# Altium footprint library to-case.PcbLib: 113 footprints (part 3 of 8)
Each footprint in its own frame and in the unit in brackets; x right, y up, seen from the top. Pads: shape width x height; smd on the part's side, far side on the other; paste and mask are expansions set on the pad; w line width, h text height; cw(c..) or ccw(c..) is an arc to the next point about the centre after c.
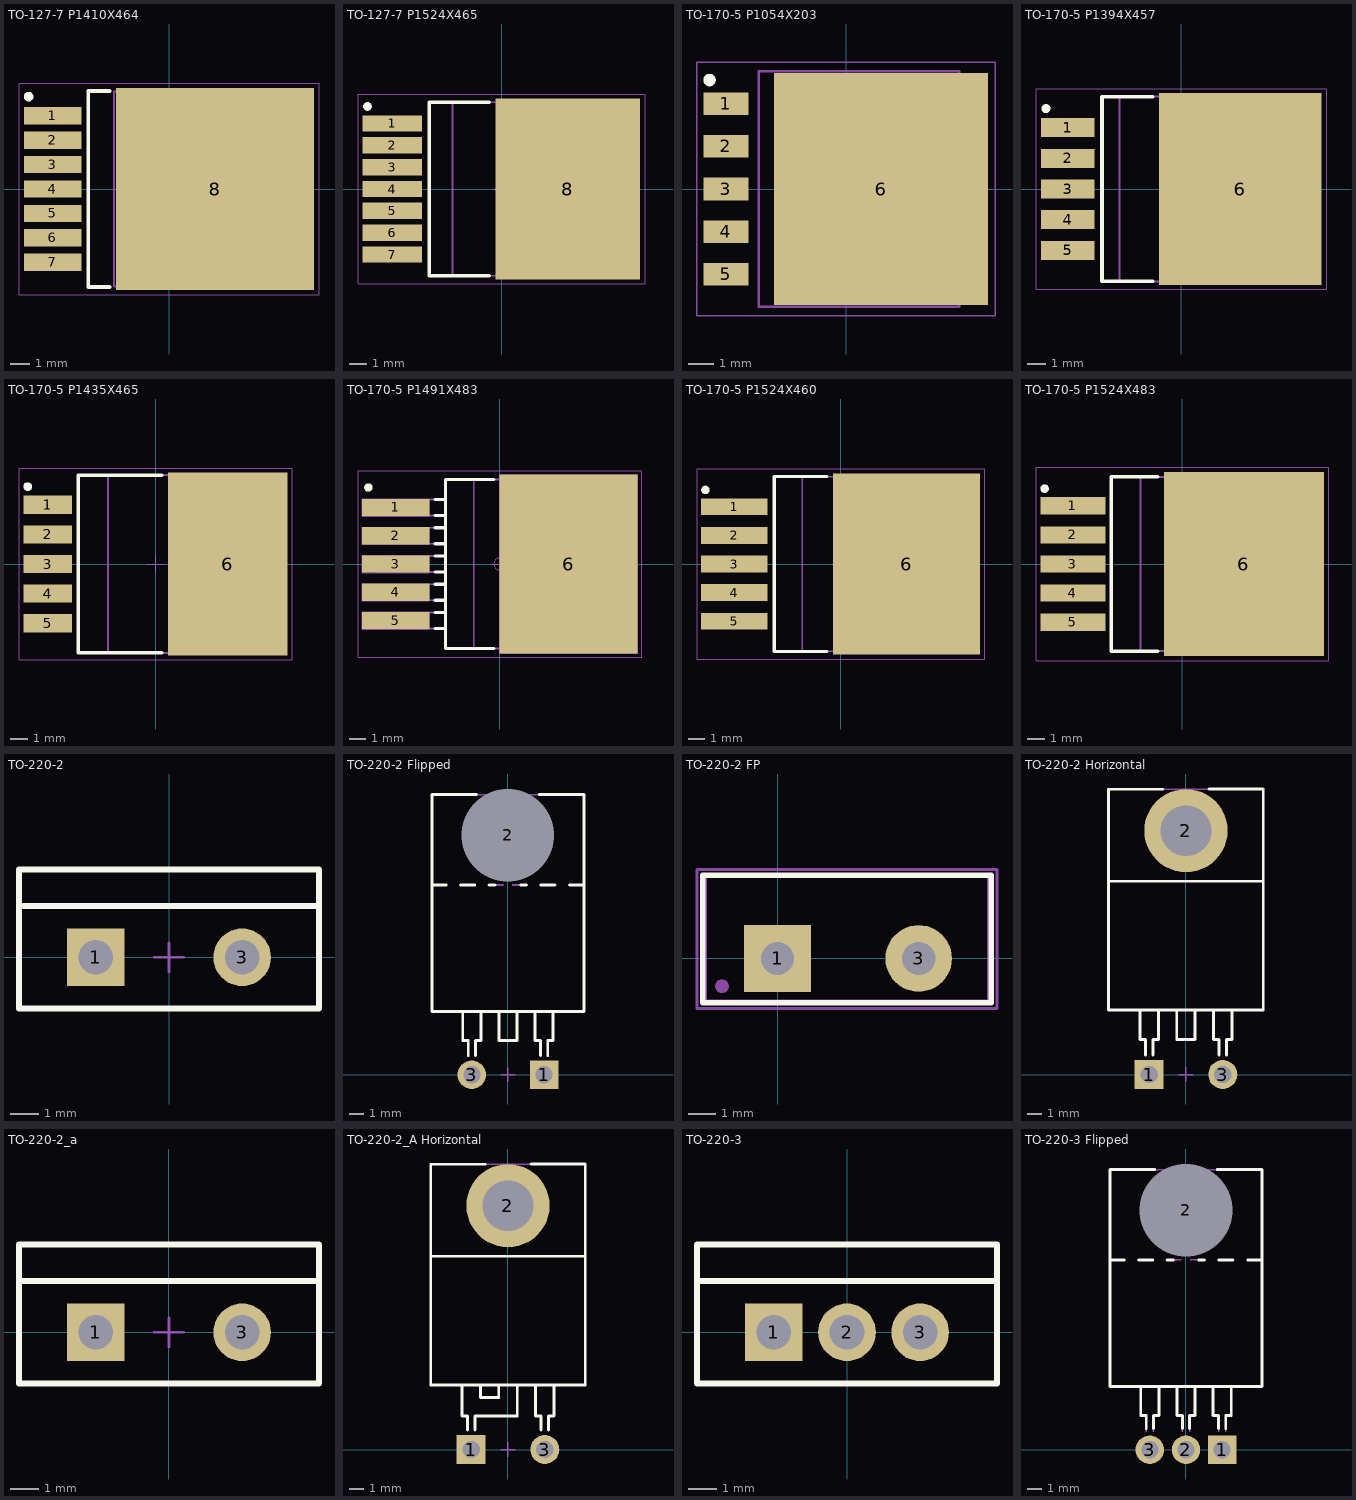
[diagram p2: the footprints below, top view; thin cyan lines are the x and y axes]

## TO-127-7 P1410X464 [mm] "TO-263, TO,1.27mm pitch;7 pin,14.10mm L X 8.64mm W X 4.64mm H body, IPC Medium Density"
height 4.64
pads (8):
  rect 3x0.9 smd: 1(-6.05,3.81) 2(-6.05,2.54) 3(-6.05,1.27) 4(-6.05,0) 5(-6.05,-1.27) 6(-6.05,-2.54) 7(-6.05,-3.81)
  rect 10.3x10.5 smd: 8(2.4,0)
Top Overlay:
  circle w0.25: c-7.3,4.8 r0.125
  lines w0.2: -3.1,-5.1 -4.2,-5.1 -4.2,5.1 -3.1,5.1
Top Paste:
  region: -1.98,-4.63 -0.36,-4.63 -0.36,-3.29 -1.98,-3.29
  region: 0.4,-4.63 2.02,-4.63 2.02,-3.29 0.4,-3.29
  region: 2.78,-4.63 4.4,-4.63 4.4,-3.29 2.78,-3.29
  region: 5.16,-4.63 6.78,-4.63 6.78,-3.29 5.16,-3.29
  region: -1.98,-2.65 -0.36,-2.65 -0.36,-1.31 -1.98,-1.31
  region: 0.4,-2.65 2.02,-2.65 2.02,-1.31 0.4,-1.31
  region: 2.78,-2.65 4.4,-2.65 4.4,-1.31 2.78,-1.31
  region: 5.16,-2.65 6.78,-2.65 6.78,-1.31 5.16,-1.31
  region: -1.98,-0.67 -0.36,-0.67 -0.36,0.67 -1.98,0.67
  region: 0.4,-0.67 2.02,-0.67 2.02,0.67 0.4,0.67
  region: 2.78,-0.67 4.4,-0.67 4.4,0.67 2.78,0.67
  region: 5.16,-0.67 6.78,-0.67 6.78,0.67 5.16,0.67
  region: -1.98,1.31 -0.36,1.31 -0.36,2.65 -1.98,2.65
  region: 0.4,1.31 2.02,1.31 2.02,2.65 0.4,2.65
  region: 2.78,1.31 4.4,1.31 4.4,2.65 2.78,2.65
  region: 5.16,1.31 6.78,1.31 6.78,2.65 5.16,2.65
  region: -1.98,3.29 -0.36,3.29 -0.36,4.63 -1.98,4.63
  region: 0.4,3.29 2.02,3.29 2.02,4.63 0.4,4.63
  region: 2.78,3.29 4.4,3.29 4.4,4.63 2.78,4.63
  region: 5.16,3.29 6.78,3.29 6.78,4.63 5.16,4.63
Mechanical 1:
  lines w0.1: 5.78,-5.112 6.199,-5.112 7.05,-4.17 7.05,4.17 6.199,5.112 5.78,5.112 ; -2.86,-5.08 5.78,-5.08 5.78,5.08 -2.86,5.08 -2.86,-5.08
Mechanical 15:
  circle w0.05: c0,0 r0.35
  lines w0.05: -0.5,0 0.5,0 ; 0,-0.5 0,0.5 ; -7.8,-5.5 7.8,-5.5 7.8,5.5 -7.8,5.5 -7.8,-5.5
3D body "TO127P1410X464-8N-1030X1050.stp": height 4.57, standoff 0, extent -7.124,-5.08 7.232,5.08

## TO-127-7 P1524X465 [mm] "TO, 1.27mm Pitch; 7 Pin, 15.24mm L X 8.89mm W X 4.65mm H Body, IPC Medium Density"
height 4.65
pads (8):
  rect 3.45x0.95 smd: 1(-6.35,3.81) 2(-6.35,2.54) 3(-6.35,1.27) 4(-6.35,0) 5(-6.35,-1.27) 6(-6.35,-2.54) 7(-6.35,-3.81)
  rect 8.4x10.5 smd: 8(3.85,0)
Top Overlay:
  circle w0.25: c-7.8,4.8 r0.125
  lines w0.2: -0.7,-5.05 -4.2,-5.05 -4.2,5.05 -0.7,5.05
Top Paste:
  region: 0.5,-4.67 2.16,-4.67 2.16,-3.25 0.5,-3.25
  region: 3.02,-4.67 4.68,-4.67 4.68,-3.25 3.02,-3.25
  region: 5.54,-4.67 7.2,-4.67 7.2,-3.25 5.54,-3.25
  region: 0.5,-2.69 2.16,-2.69 2.16,-1.27 0.5,-1.27
  region: 3.02,-2.69 4.68,-2.69 4.68,-1.27 3.02,-1.27
  region: 5.54,-2.69 7.2,-2.69 7.2,-1.27 5.54,-1.27
  region: 0.5,-0.71 2.16,-0.71 2.16,0.71 0.5,0.71
  region: 3.02,-0.71 4.68,-0.71 4.68,0.71 3.02,0.71
  region: 5.54,-0.71 7.2,-0.71 7.2,0.71 5.54,0.71
  region: 0.5,1.27 2.16,1.27 2.16,2.69 0.5,2.69
  region: 3.02,1.27 4.68,1.27 4.68,2.69 3.02,2.69
  region: 5.54,1.27 7.2,1.27 7.2,2.69 5.54,2.69
  region: 0.5,3.25 2.16,3.25 2.16,4.67 0.5,4.67
  region: 3.02,3.25 4.68,3.25 4.68,4.67 3.02,4.67
  region: 5.54,3.25 7.2,3.25 7.2,4.67 5.54,4.67
Mechanical 1:
  lines w0.1: 6.04,5.047 6.561,5.047 7.62,3.874 7.62,-3.875 6.561,-5.048 6.04,-5.048 ; 6.04,-5.048 -2.85,-5.048 -2.85,5.048 6.04,5.048 6.04,-5.048
Mechanical 15:
  circle w0.05: c0,0 r0.35
  lines w0.05: -0.5,0 0.5,0 ; 0,-0.5 0,0.5 ; -8.35,-5.5 8.35,-5.5 8.35,5.5 -8.35,5.5 -8.35,-5.5
3D body "TO127P1524X465-8N-R840X1050.stp": height 4.65, standoff 0, extent -7.685,-5.205 7.685,5.205

## TO-170-5 P1054X203 [mm] "TO, 1.70mm Pitch; 5 Pin,10.54mm L X 8.00mm W X 2.03mm H body, IPC Medium Density"
height 2.03
pads (6):
  rect 1.8x0.9 smd: 1(-4.8,3.4) 2(-4.8,1.7) 3(-4.8,0) 4(-4.8,-1.7) 5(-4.8,-3.4)
  rect 8.55x9.25 smd: 6(1.4,0)
Top Overlay:
  circle w0.25: c-5.45,4.35 r0.125
Top Paste:
  region: 3.71,2.49 5.03,2.49 5.03,3.99 3.71,3.99
  region: 1.73,2.49 3.05,2.49 3.05,3.99 1.73,3.99
  region: -0.25,2.49 1.07,2.49 1.07,3.99 -0.25,3.99
  region: -2.23,2.49 -0.91,2.49 -0.91,3.99 -2.23,3.99
  region: 3.71,0.33 5.03,0.33 5.03,1.83 3.71,1.83
  region: 1.73,0.33 3.05,0.33 3.05,1.83 1.73,1.83
  region: -0.25,0.33 1.07,0.33 1.07,1.83 -0.25,1.83
  region: -2.23,0.33 -0.91,0.33 -0.91,1.83 -2.23,1.83
  region: 3.71,-1.83 5.03,-1.83 5.03,-0.33 3.71,-0.33
  region: 1.73,-1.83 3.05,-1.83 3.05,-0.33 1.73,-0.33
  region: -0.25,-1.83 1.07,-1.83 1.07,-0.33 -0.25,-0.33
  region: -2.23,-1.83 -0.91,-1.83 -0.91,-0.33 -2.23,-0.33
  region: 3.71,-3.99 5.03,-3.99 5.03,-2.49 3.71,-2.49
  region: 1.73,-3.99 3.05,-3.99 3.05,-2.49 1.73,-2.49
  region: -0.25,-3.99 1.07,-3.99 1.07,-2.49 -0.25,-2.49
  region: -2.23,-3.99 -0.91,-3.99 -0.91,-2.49 -2.23,-2.49
Mechanical 1:
  lines w0.1: 4.51,-4.508 4.761,-4.508 5.27,-3.944 5.27,3.943 4.761,4.507 4.51,4.507 ; -3.49,-4.698 -3.49,4.698 4.51,4.698 4.51,-4.698 -3.49,-4.698
Mechanical 15:
  circle w0.05: c0,0 r0.35
  lines w0.05: -0.5,0 0.5,0 ; 0,-0.5 0,0.5 ; -5.95,-5.05 -5.95,5.05 5.95,5.05 5.95,-5.05 -5.95,-5.05
3D body "TO170P1054X203-6N-R803X914.stp": height 1.92, standoff 0, extent -5.226,-4.76 5.227,4.76

## TO-170-5 P1394X457 [mm] "TO, 1.70mm Pitch; 5 Pin, 13.945mm L X 8.89mm W X 4.572mm H body, IPC Medium Density"
height 4.57
pads (6):
  rect 2.95x1.05 smd: 1(-6.3,3.4) 2(-6.3,1.7) 3(-6.3,0) 4(-6.3,-1.7) 5(-6.3,-3.4)
  rect 9x10.6 smd: 6(3.25,0)
Top Overlay:
  circle w0.25: c-7.5,4.45 r0.125
  lines w0.2: -1.6,-5.1 -4.4,-5.1 -4.4,5.1 -1.6,5.1
Top Paste:
  region: 5.69,3.3 7.05,3.3 7.05,4.7 5.69,4.7
  region: 3.61,3.3 4.97,3.3 4.97,4.7 3.61,4.7
  region: 1.53,3.3 2.89,3.3 2.89,4.7 1.53,4.7
  region: -0.55,3.3 0.81,3.3 0.81,4.7 -0.55,4.7
  region: 5.69,1.3 7.05,1.3 7.05,2.7 5.69,2.7
  region: 3.61,1.3 4.97,1.3 4.97,2.7 3.61,2.7
  region: 1.53,1.3 2.89,1.3 2.89,2.7 1.53,2.7
  region: -0.55,1.3 0.81,1.3 0.81,2.7 -0.55,2.7
  region: 5.69,-0.7 7.05,-0.7 7.05,0.7 5.69,0.7
  region: 3.61,-0.7 4.97,-0.7 4.97,0.7 3.61,0.7
  region: 1.53,-0.7 2.89,-0.7 2.89,0.7 1.53,0.7
  region: -0.55,-0.7 0.81,-0.7 0.81,0.7 -0.55,0.7
  region: 5.69,-2.7 7.05,-2.7 7.05,-1.3 5.69,-1.3
  region: 3.61,-2.7 4.97,-2.7 4.97,-1.3 3.61,-1.3
  region: 1.53,-2.7 2.89,-2.7 2.89,-1.3 1.53,-1.3
  region: -0.55,-2.7 0.81,-2.7 0.81,-1.3 -0.55,-1.3
  region: 5.69,-4.7 7.05,-4.7 7.05,-3.3 5.69,-3.3
  region: 3.61,-4.7 4.97,-4.7 4.97,-3.3 3.61,-3.3
  region: 1.53,-4.7 2.89,-4.7 2.89,-3.3 1.53,-3.3
  region: -0.55,-4.7 0.81,-4.7 0.81,-3.3 -0.55,-3.3
Mechanical 1:
  lines w0.1: 5.452,-5.112 5.954,-5.112 6.972,-3.984 6.972,3.983 5.954,5.112 5.452,5.112 ; 5.452,-5.112 5.452,5.112 ; 5.452,-5.112 -3.438,-5.112 -3.438,5.112 5.452,5.112
Mechanical 15:
  circle w0.05: c0,0 r0.35
  lines w0.05: -0.5,0 0.5,0 ; 0,-0.5 0,0.5 ; -8.05,-5.55 -8.05,5.55 8.05,5.55 8.05,-5.55 -8.05,-5.55
3D body "TO170P1394X457-6N-R900X1060.stp": height 4.63, standoff 0, extent -6.935,-5.27 7.111,5.27

## TO-170-5 P1435X465 [mm] "TO-263, 5 Leads, 1.70mm pitch; TO, 14.35mm L X 8.64mm W X 4.65mm H body IPC Medium Density"
height 4.65
pads (6):
  rect 2.8x1.05 smd: 1(-6.2,3.4) 2(-6.2,1.7) 3(-6.2,0) 4(-6.2,-1.7) 5(-6.2,-3.4)
  rect 6.85x10.5 smd: 6(4.15,0)
Top Overlay:
  circle w0.25: c-7.35,4.45 r0.125
  lines w0.2: 0.35,-5.1 -4.45,-5.1 -4.45,5.1 0.35,5.1
Top Paste:
  region: 5.55,3.25 6.83,3.25 6.83,4.75 5.55,4.75
  region: 3.51,3.25 4.79,3.25 4.79,4.75 3.51,4.75
  region: 1.47,3.25 2.75,3.25 2.75,4.75 1.47,4.75
  region: 5.55,1.25 6.83,1.25 6.83,2.75 5.55,2.75
  region: 3.51,1.25 4.79,1.25 4.79,2.75 3.51,2.75
  region: 1.47,1.25 2.75,1.25 2.75,2.75 1.47,2.75
  region: 5.55,-0.75 6.83,-0.75 6.83,0.75 5.55,0.75
  region: 3.51,-0.75 4.79,-0.75 4.79,0.75 3.51,0.75
  region: 1.47,-0.75 2.75,-0.75 2.75,0.75 1.47,0.75
  region: 5.55,-2.75 6.83,-2.75 6.83,-1.25 5.55,-1.25
  region: 3.51,-2.75 4.79,-2.75 4.79,-1.25 3.51,-1.25
  region: 1.47,-2.75 2.75,-2.75 2.75,-1.25 1.47,-1.25
  region: 5.55,-4.75 6.83,-4.75 6.83,-3.25 5.55,-3.25
  region: 3.51,-4.75 4.79,-4.75 4.79,-3.25 3.51,-3.25
  region: 1.47,-4.75 2.75,-4.75 2.75,-3.25 1.47,-3.25
Mechanical 1:
  lines w0.1: 5.905,-5.112 -2.735,-5.112 -2.735,5.112 5.905,5.112 ; 5.905,-5.112 5.905,5.112 ; 5.905,-5.112 6.324,-5.112 7.175,-4.17 7.175,4.17 6.324,5.112 5.905,5.112
Mechanical 15:
  lines w0.05: -7.8,-5.5 7.8,-5.5 ; -7.8,5.5 7.8,5.5 ; -0.5,0 0.5,0 ; 0,-0.5 0,0.5 ; -7.85,-5.5 7.85,-5.5 7.85,5.5 -7.85,5.5 -7.85,-5.5
3D body "TO170P1435X465-6N-R1041X635.stp": height 4.64, standoff -0.01, extent -7.11,-5.205 7.24,5.205

## TO-170-5 P1491X483 [mm] "DDPAK TO-263, TO, 1.70mm Pitch; 5 Pin, 14.91mm L X 9.017mm W X 4.826mm H body, IPC Medium Density"
height 4.83
pads (6):
  rect 4.05x1.05 smd: 1(-6.25,3.4) 2(-6.25,1.7) 3(-6.25,0) 4(-6.25,-1.7) 5(-6.25,-3.4)
  rect 8.3x10.75 smd: 6(4.149,0)
Top Overlay:
  circle w0.25: c-7.9,4.6 r0.125
  lines w0.2: -3.875,-3.879 -3.262,-3.879 ; -3.875,-2.919 -3.262,-2.919 ; -3.875,-2.179 -3.262,-2.179 ; -3.875,-1.219 -3.262,-1.219 ; -3.875,-0.479 -3.262,-0.479 ; -3.875,0.481 -3.262,0.481 ; -3.875,1.221 -3.262,1.221 ; -3.875,2.181 -3.262,2.181 ; -3.875,2.921 -3.262,2.921 ; -3.875,3.881 -3.262,3.881 ; -0.351,-5.079 -3.262,-5.079 -3.262,5.081 -0.351,5.081
Mechanical 1:
  lines w0.1: -3.262,-3.879 -7.455,-3.879 -7.455,-2.919 -3.262,-2.919 ; -3.262,-2.179 -7.455,-2.179 -7.455,-1.219 -3.262,-1.219 ; -3.262,-0.479 -7.455,-0.479 -7.455,0.481 -3.262,0.481 ; -3.262,1.221 -7.455,1.221 -7.455,2.181 -3.262,2.181 ; -3.262,2.921 -7.455,2.921 -7.455,3.881 -3.262,3.881 ; -1.557,-5.081 -1.557,5.081 ; 5.755,-5.079 -3.262,-5.079 -3.262,5.081 5.755,5.081 ; 5.755,-5.079 5.755,5.081 ; 5.755,-5.079 7.455,-4.873 7.455,4.872 5.755,5.081
Mechanical 8:
  lines w0.05: -0.5,0 0,0 ; 0,-0.5 0,0 ; 0,0.5 0,0 ; 0.5,0 0,0 ; -8.275,-3.925 -8.275,-2.875 ; -8.275,-3.925 -4.225,-3.925 -4.225,-2.875 -8.275,-2.875 ; -8.275,-3.925 -6.25,-3.4 -8.275,-2.875 ; -8.275,-2.225 -8.275,-1.175 ; -8.275,-2.225 -4.225,-2.225 -4.225,-1.175 -8.275,-1.175 ; -8.275,-2.225 -6.25,-1.7 -8.275,-1.175 ; -8.275,-0.525 -8.275,0.525 ; -8.275,-0.525 -4.225,-0.525 -4.225,0.525 -8.275,0.525 ; -8.275,-0.525 -6.25,0 -8.275,0.525 ; -8.275,1.175 -8.275,2.225 ; -8.275,1.175 -4.225,1.175 -4.225,2.225 -8.275,2.225 ; -8.275,1.175 -6.25,1.7 -8.275,2.225 ; -8.275,2.875 -8.275,3.925 ; -8.275,2.875 -4.225,2.875 -4.225,3.925 -8.275,3.925 ; -8.275,2.875 -6.25,3.4 -8.275,3.925 ; 8.299,-5.375 8.299,5.375 ; 8.299,-5.375 -0.001,-5.375 -0.001,5.375 8.299,5.375 ; 8.299,-5.375 4.149,0 8.299,5.375
Mechanical 15:
  circle w0.05: c0,0 r0.35
  lines w0.05: -0.5,0 0.5,0 ; 0,-0.5 0,0.5 ; -8.525,-5.625 -8.525,5.625 8.549,5.625 8.549,-5.625 -8.525,-5.625
3D body "TO170P1491X483-6N-R830X1075.stp": height 4.82, standoff -0.02, extent -7.455,-5.082 7.455,5.081

## TO-170-5 P1524X460 [mm] "DDPAK TO-263, TO, 1.70mm Pitch; 5 Pin, 15.24mm L X 8.781mm W X 4.597mm H body, IPC Medium Density"
height 4.6
pads (6):
  rect 3.95x1 smd: 1(-6.35,3.4) 2(-6.35,1.7) 3(-6.35,0) 4(-6.35,-1.7) 5(-6.35,-3.4)
  rect 8.75x10.75 smd: 6(3.9,0)
Top Overlay:
  circle w0.25: c-8.05,4.4 r0.125
  lines w0.2: -0.85,-5.2 -3.95,-5.2 -3.95,5.2 -0.85,5.2
Top Paste:
  region: 0.25,-4.76 1.55,-4.76 1.55,-3.32 0.25,-3.32
  region: 2.25,-4.76 3.55,-4.76 3.55,-3.32 2.25,-3.32
  region: 4.25,-4.76 5.55,-4.76 5.55,-3.32 4.25,-3.32
  region: 6.25,-4.76 7.55,-4.76 7.55,-3.32 6.25,-3.32
  region: 0.25,-2.74 1.55,-2.74 1.55,-1.3 0.25,-1.3
  region: 2.25,-2.74 3.55,-2.74 3.55,-1.3 2.25,-1.3
  region: 4.25,-2.74 5.55,-2.74 5.55,-1.3 4.25,-1.3
  region: 6.25,-2.74 7.55,-2.74 7.55,-1.3 6.25,-1.3
  region: 0.25,-0.72 1.55,-0.72 1.55,0.72 0.25,0.72
  region: 2.25,-0.72 3.55,-0.72 3.55,0.72 2.25,0.72
  region: 4.25,-0.72 5.55,-0.72 5.55,0.72 4.25,0.72
  region: 6.25,-0.72 7.55,-0.72 7.55,0.72 6.25,0.72
  region: 0.25,1.3 1.55,1.3 1.55,2.74 0.25,2.74
  region: 2.25,1.3 3.55,1.3 3.55,2.74 2.25,2.74
  region: 4.25,1.3 5.55,1.3 5.55,2.74 4.25,2.74
  region: 6.25,1.3 7.55,1.3 7.55,2.74 6.25,2.74
  region: 0.25,3.32 1.55,3.32 1.55,4.76 0.25,4.76
  region: 2.25,3.32 3.55,3.32 3.55,4.76 2.25,4.76
  region: 4.25,3.32 5.55,3.32 5.55,4.76 4.25,4.76
  region: 6.25,3.32 7.55,3.32 7.55,4.76 6.25,4.76
Mechanical 1:
  lines w0.1: 6.477,-5.182 -2.304,-5.182 -2.304,5.182 6.477,5.182 ; 6.477,-5.182 6.477,5.182 ; 6.477,-5.182 6.854,-5.182 7.62,-4.332 7.62,4.332 6.854,5.182 6.477,5.182
  text "1" at 0.45,-0.164 h0.75
Mechanical 15:
  circle w0.05: c0,0 r0.35
  lines w0.05: -0.5,0 0.5,0 ; 0,-0.5 0,0.5 ; -8.55,-5.65 8.55,-5.65 8.55,5.65 -8.55,5.65 -8.55,-5.65
3D body "TO170P1524X460-6N-R774X1067.stp": height 4.59, standoff -0.01, extent -7.94,-5.335 7.935,5.335

## TO-170-5 P1524X483 [mm] "DDPAK TO-263, TO, 1.70mm pitch; 5 pin, 15.24mm L X 8.925mm W X 4.83mm H body, IPC Medium Density"
height 4.83
pads (6):
  rect 3.8x1 smd: 1(-6.4,3.4) 2(-6.4,1.7) 3(-6.4,0) 4(-6.4,-1.7) 5(-6.4,-3.4)
  rect 9.35x10.75 smd: 6(3.6,0)
Top Overlay:
  circle w0.25: c-8.05,4.4 r0.125
  lines w0.2: -1.45,-5.1 -4.15,-5.1 -4.15,5.1 -1.45,5.1
Top Paste:
  region: 6.13,3.37 6.13,4.79 7.55,4.79 7.55,3.37
  region: 3.97,3.37 3.97,4.79 5.39,4.79 5.39,3.37
  region: 1.81,3.37 1.81,4.79 3.23,4.79 3.23,3.37
  region: -0.35,3.37 -0.35,4.79 1.07,4.79 1.07,3.37
  region: 6.13,1.33 6.13,2.75 7.55,2.75 7.55,1.33
  region: 3.97,1.33 3.97,2.75 5.39,2.75 5.39,1.33
  region: 1.81,1.33 1.81,2.75 3.23,2.75 3.23,1.33
  region: -0.35,1.33 -0.35,2.75 1.07,2.75 1.07,1.33
  region: 6.13,-0.71 6.13,0.71 7.55,0.71 7.55,-0.71
  region: 3.97,-0.71 3.97,0.71 5.39,0.71 5.39,-0.71
  region: 1.81,-0.71 1.81,0.71 3.23,0.71 3.23,-0.71
  region: -0.35,-0.71 -0.35,0.71 1.07,0.71 1.07,-0.71
  region: 6.13,-2.75 6.13,-1.33 7.55,-1.33 7.55,-2.75
  region: 3.97,-2.75 3.97,-1.33 5.39,-1.33 5.39,-2.75
  region: 1.81,-2.75 1.81,-1.33 3.23,-1.33 3.23,-2.75
  region: -0.35,-2.75 -0.35,-1.33 1.07,-1.33 1.07,-2.75
  region: 6.13,-4.79 6.13,-3.37 7.55,-3.37 7.55,-4.79
  region: 3.97,-4.79 3.97,-3.37 5.39,-3.37 5.39,-4.79
  region: 1.81,-4.79 1.81,-3.37 3.23,-3.37 3.23,-4.79
  region: -0.35,-4.79 -0.35,-3.37 1.07,-3.37 1.07,-4.79
Mechanical 1:
  lines w0.1: 6.48,-5.08 -2.445,-5.08 -2.445,5.08 6.48,5.08 ; 6.48,-5.08 6.48,5.08 ; 6.48,-5.08 6.856,-5.08 7.62,-4.234 7.62,4.234 6.856,5.08 6.48,5.08
Mechanical 15:
  circle w0.05: c0,0 r0.35
  lines w0.05: -0.5,0 0.5,0 ; 0,-0.5 0,0.5 ; -8.55,-5.65 -8.55,5.65 8.55,5.65 8.55,-5.65 -8.55,-5.65
3D body "TO170P1524X483-6N-R886X1067.stp": height 4.83, standoff -0.01, extent -7.732,-5.335 8.148,5.335

## TO-220-2 [mm] "TO-220 2-Terminal - Vertical Mount"
height 22.86
pads (2):
  rect 2x2 hole 1.2: 1(-2.54,0)
  round 2 hole 1.2: 3(2.54,0)
Top Overlay:
  lines w0.2: -5.207,1.778 5.207,1.778 ; -5.207,-1.778 5.207,-1.778 5.207,3.048 -5.207,3.048 -5.207,-1.778
Mechanical 1:
  lines w0.1: -5.207,1.778 5.207,1.778 ; -5.207,-1.778 5.207,-1.778 5.207,3.048 -5.207,3.048 -5.207,-1.778
Mechanical 15:
  lines w0.1: -5.207,1.778 5.207,1.778 ; -0.5,0 0,0 ; 0,-0.5 0,0 ; 0,0.5 0,0 ; 0.5,0 0,0 ; -5.207,-1.778 -5.207,3.048 5.207,3.048 5.207,-1.778 -5.207,-1.778
3D body "TO-220-2-V.stp": height 20.5, standoff -3.5, extent -5.27,-1.75 5.27,2.95

## TO-220-2 Flipped [mm] "TO-220 2-Terminal + Tab - Flipped Horizontal Mount"
height 4.7
pads (3):
  rect 2x2 hole 1.2: 1(2.54,0)
  round 1.5 hole 6.5 unplated mask+2.5: 2(0,16.828)
  round 2 hole 1.2: 3(-2.54,0)
Top Overlay:
  lines w0.2: -5.334,13.335 -4.334,13.335 ; -3.334,13.335 -2.334,13.335 ; -3.175,4.445 -3.175,2.413 -2.794,2.413 -2.794,1.35 ; -2.286,1.35 -2.286,2.413 -1.905,2.413 -1.905,4.445 ; -2.2,19.685 -5.334,19.685 -5.334,4.445 5.334,4.445 5.334,19.685 5.319,19.7 2.2,19.7 ; -1.334,13.335 -0.9,13.335 ; -0.635,4.445 -0.635,2.413 0.635,2.413 0.635,4.445 ; 0.9,13.335 1.3,13.335 ; 1.905,4.445 1.905,2.413 2.286,2.413 2.286,1.35 ; 2.3,13.335 3.3,13.335 ; 2.794,1.35 2.794,2.413 3.175,2.413 3.175,4.445 ; 4.334,13.335 5.334,13.335
Mechanical 1:
  circle w0.1: c0,16.828 r2
  lines w0.1: -5.334,13.335 -4.334,13.335 ; -3.334,13.335 -2.334,13.335 ; -3.175,4.445 -3.175,2.413 -2.794,2.413 -2.794,1.27 ; -2.286,1.27 -2.286,2.413 -1.905,2.413 -1.905,4.445 ; -1.334,13.335 -0.334,13.335 ; -0.635,4.445 -0.635,2.413 0.635,2.413 0.635,4.445 ; 0.3,13.335 1.3,13.335 ; 1.905,4.445 1.905,2.413 2.286,2.413 2.286,1.27 ; 2.3,13.335 3.3,13.335 ; 2.794,1.27 2.794,2.413 3.175,2.413 3.175,4.445 ; 4.334,13.335 5.334,13.335 ; -5.334,4.445 5.334,4.445 5.334,19.685 -5.334,19.685 -5.334,4.445
Mechanical 15:
  circle w0.1: c0.005,16.826 r2
  lines w0.1: -5.329,13.333 -4.329,13.333 ; -3.329,13.333 -2.329,13.333 ; -3.17,4.443 -3.17,2.411 -2.789,2.411 -2.789,1.268 ; -2.281,1.268 -2.281,2.411 -1.9,2.411 -1.9,4.443 ; -1.329,13.333 -0.329,13.333 ; -0.63,4.443 -0.63,2.411 0.64,2.411 0.64,4.443 ; -0.5,0 0,0 ; 0,-0.5 0,0 ; 0,0.5 0,0 ; 0.305,13.333 1.305,13.333 ; 0.5,0 0,0 ; 1.91,4.443 1.91,2.411 2.291,2.411 2.291,1.268 ; 2.305,13.333 3.305,13.333 ; 2.799,1.268 2.799,2.411 3.18,2.411 3.18,4.443 ; 4.339,13.333 5.339,13.333 ; -5.329,4.443 -5.329,19.683 5.339,19.683 5.339,4.443 -5.329,4.443
3D body "TO-220-2-HFLIP.stp": height 4.7, standoff -4.7, extent -5.27,-0.28 5.27,19.49

## TO-220-2 FP [mm]
pads (3):
  rect 2.4x2.4 hole 1.2: 1(0,0)
  round 2.4 hole 1.2: 3(5.08,0)
  round 0.5 on Mech1: ""(-2,-1)
Top Overlay:
  lines w0.2: -2.7,-1.6 -2.7,3 7.7,3 7.7,-1.6 -2.7,-1.6
Mechanical 1:
  lines w0.1: -2.59,-1.533 -2.59,2.977 7.59,2.977 7.59,-1.533 -2.59,-1.533
Mechanical 15:
  lines w0.1: -0.5,0 0,0 ; 0,-0.5 0,0 ; 0,0.5 0,0 ; 0.5,0 0,0 ; -2.9,-1.8 7.9,-1.8 7.9,3.2 -2.9,3.2 -2.9,-1.8
3D body "TO-220FPAC.stp": height 21.15, standoff -8.45, extent -2.59,-1.533 7.59,2.977

## TO-220-2 Horizontal [mm] "TO-220 2-Terminal + Tab - Horizontal Mount"
height 4.7
pads (3):
  rect 2x2 hole 1.2: 1(-2.54,0)
  round 5.75 hole 3.5: 2(0,16.828)
  round 2 hole 1.2: 3(2.54,0)
Top Overlay:
  lines w0.2: -5.334,13.335 5.334,13.335 ; -3.175,4.445 -3.175,2.413 -2.794,2.413 -2.794,1.35 ; -2.286,1.35 -2.286,2.413 -1.905,2.413 -1.905,4.445 ; -1.6,19.685 -5.334,19.685 -5.334,4.445 5.334,4.445 5.334,19.685 5.319,19.7 1.6,19.7 ; -0.635,4.445 -0.635,2.413 0.635,2.413 0.635,4.445 ; 1.905,4.445 1.905,2.413 2.286,2.413 2.286,1.35 ; 2.794,1.35 2.794,2.413 3.175,2.413 3.175,4.445
Mechanical 1:
  circle w0.1: c0,16.828 r2
  lines w0.1: -5.334,13.335 5.334,13.335 ; -3.175,4.445 -3.175,2.413 -2.794,2.413 -2.794,1.27 ; -2.286,1.27 -2.286,2.413 -1.905,2.413 -1.905,4.445 ; -0.635,4.445 -0.635,2.413 0.635,2.413 0.635,4.445 ; 1.905,4.445 1.905,2.413 2.286,2.413 2.286,1.27 ; 2.794,1.27 2.794,2.413 3.175,2.413 3.175,4.445 ; -5.334,4.445 -5.334,19.685 5.334,19.685 5.334,4.445 -5.334,4.445
Mechanical 15:
  circle w0.1: c0.006,16.82 r2
  lines w0.1: -5.328,13.327 5.34,13.327 ; -3.169,4.437 -3.169,2.405 -2.788,2.405 -2.788,1.262 ; -2.28,1.262 -2.28,2.405 -1.899,2.405 -1.899,4.437 ; -0.629,4.437 -0.629,2.405 0.641,2.405 0.641,4.437 ; -0.5,0 0,0 ; 0,-0.5 0,0 ; 0,0.5 0,0 ; 0.5,0 0,0 ; 1.911,4.437 1.911,2.405 2.292,2.405 2.292,1.262 ; 2.8,1.262 2.8,2.405 3.181,2.405 3.181,4.437 ; -5.328,4.437 5.34,4.437 5.34,19.677 -5.328,19.677 -5.328,4.437
3D body "TO-220-2-H.stp": height 4.7, standoff -3.5, extent -5.27,-0.28 5.27,19.49

## TO-220-2_a [mm] "TO-220 2-Terminal - Vertical Mount"
height 22.86
pads (2):
  rect 2x2 hole 1.2: 1(-2.54,0)
  round 2 hole 1.2: 3(2.54,0)
Top Overlay:
  lines w0.2: -5.207,1.778 5.207,1.778 ; -5.207,-1.778 -5.207,3.048 5.207,3.048 5.207,-1.778 -5.207,-1.778
Mechanical 1:
  lines w0.1: -5.207,1.778 5.207,1.778 ; -5.207,-1.778 -5.207,3.048 5.207,3.048 5.207,-1.778 -5.207,-1.778
Mechanical 15:
  lines w0.1: -5.207,1.778 5.207,1.778 ; -0.5,0 0,0 ; 0,-0.5 0,0 ; 0,0.5 0,0 ; 0.5,0 0,0 ; -5.207,-1.778 -5.207,3.048 5.207,3.048 5.207,-1.778 -5.207,-1.778
3D body "TO-220-2-V_a.stp": height 20.5, standoff -3.5, extent -5.27,-1.75 5.27,2.95

## TO-220-2_A Horizontal [mm] "TO-220 2-Terminal + Tab - Horizontal Mount"
height 4.7
pads (3):
  rect 2x2 hole 1.2: 1(-2.54,0)
  round 5.75 hole 3.5: 2(0,16.828)
  round 2 hole 1.2: 3(2.54,0)
Top Overlay:
  lines w0.2: -5.334,13.335 5.334,13.335 ; -3.175,4.445 -3.175,2.315 -2.794,2.315 -2.794,1.35 ; -2.286,1.35 -2.286,2.315 0.635,2.315 0.635,4.445 ; -1.905,4.445 -1.905,3.585 -0.635,3.585 -0.635,4.445 ; -1.6,19.685 -5.334,19.685 -5.334,4.445 5.334,4.445 5.334,19.685 5.319,19.7 1.6,19.7 ; 1.905,4.445 1.905,2.315 2.286,2.315 2.286,1.35 ; 2.794,1.35 2.794,2.315 3.175,2.315 3.175,4.445
Mechanical 1:
  circle w0.1: c0,16.828 r2
  lines w0.1: -5.334,13.335 5.334,13.335 ; -3.175,4.445 -3.175,2.315 -2.794,2.315 -2.794,1.35 ; -2.286,1.35 -2.286,2.315 0.635,2.315 0.635,4.445 ; -1.905,4.445 -1.905,3.585 -0.635,3.585 -0.635,4.445 ; 1.905,4.445 1.905,2.315 2.286,2.315 2.286,1.35 ; 2.794,1.35 2.794,2.315 3.175,2.315 3.175,4.445 ; -5.334,4.445 5.334,4.445 5.334,19.685 -5.334,19.685 -5.334,4.445
Mechanical 15:
  circle w0.1: c0,16.828 r2
  lines w0.1: -5.334,13.335 5.334,13.335 ; -3.175,4.445 -3.175,2.315 -2.794,2.315 -2.794,1.35 ; -2.286,1.35 -2.286,2.315 0.635,2.315 0.635,4.445 ; -1.905,4.445 -1.905,3.585 -0.635,3.585 -0.635,4.445 ; -0.5,0 0,0 ; 0,-0.5 0,0 ; 0,0.5 0,0 ; 0.5,0 0,0 ; 1.905,4.445 1.905,2.315 2.286,2.315 2.286,1.35 ; 2.794,1.35 2.794,2.315 3.175,2.315 3.175,4.445 ; -5.334,4.445 5.334,4.445 5.334,19.685 -5.334,19.685 -5.334,4.445
3D body "TO-220-2-H_a.stp": height 4.7, standoff -3.5, extent -5.27,-0.28 5.27,19.49

## TO-220-3 [mm] "TO-220 3-Terminal - Vertical Mount"
height 22.86
pads (3):
  rect 2x2 hole 1.2: 1(-2.54,0)
  round 2 hole 1.2: 2(0,0) 3(2.54,0)
Top Overlay:
  lines w0.2: -5.207,1.778 5.207,1.778 ; -5.207,-1.778 -5.207,3.048 5.207,3.048 5.207,-1.778 -5.207,-1.778
Mechanical 1:
  lines w0.1: -5.207,1.778 5.207,1.778 ; -5.207,-1.778 -5.207,3.048 5.207,3.048 5.207,-1.778 -5.207,-1.778
Mechanical 15:
  lines w0.1: -5.207,1.778 5.207,1.778 ; -0.5,0 0,0 ; 0,-0.5 0,0 ; 0,0.5 0,0 ; 0.5,0 0,0 ; -5.207,-1.778 -5.207,3.048 5.207,3.048 5.207,-1.778 -5.207,-1.778
3D body "TO-220-V.stp": height 20.5, standoff -3.5, extent -5.27,-1.75 5.27,2.95

## TO-220-3 Flipped [mm] "TO-220 3-Terminal + Tab - Flipped Horizontal Mount"
height 4.7
pads (4):
  rect 2x2 hole 1.2: 1(2.54,0)
  round 2 hole 1.2: 2(0,0) 3(-2.54,0)
  round 1.5 hole 6.5 unplated mask+2.5: 2(0,16.828)
Top Overlay:
  lines w0.2: -5.334,13.335 -4.334,13.335 ; -3.334,13.335 -2.334,13.335 ; -3.175,4.445 -3.175,2.413 -2.794,2.413 -2.794,1.5 ; -2.286,1.5 -2.286,2.413 -1.905,2.413 -1.905,4.445 ; -2.2,19.685 -5.334,19.685 -5.334,4.445 5.334,4.445 5.334,19.685 5.319,19.7 2.2,19.7 ; -1.334,13.335 -0.9,13.335 ; -0.635,4.445 -0.635,2.413 -0.254,2.413 -0.254,1.5 ; 0.254,1.5 0.254,2.413 0.635,2.413 0.635,4.445 ; 0.9,13.335 1.3,13.335 ; 1.905,4.445 1.905,2.413 2.286,2.413 2.286,1.5 ; 2.3,13.335 3.3,13.335 ; 2.794,1.5 2.794,2.413 3.175,2.413 3.175,4.445 ; 4.334,13.335 5.334,13.335
Mechanical 1:
  circle w0.1: c0,16.828 r2
  lines w0.1: -5.334,13.335 -4.334,13.335 ; -3.334,13.335 -2.334,13.335 ; -3.175,4.445 -3.175,2.413 -2.794,2.413 -2.794,1.27 ; -2.286,1.27 -2.286,2.413 -1.905,2.413 -1.905,4.445 ; -1.334,13.335 -0.334,13.335 ; -0.635,4.445 -0.635,2.413 -0.254,2.413 -0.254,1.27 ; 0.254,1.27 0.254,2.413 0.635,2.413 0.635,4.445 ; 0.3,13.335 1.3,13.335 ; 1.905,4.445 1.905,2.413 2.286,2.413 2.286,1.27 ; 2.3,13.335 3.3,13.335 ; 2.794,1.27 2.794,2.413 3.175,2.413 3.175,4.445 ; 4.334,13.335 5.334,13.335 ; -5.334,4.445 5.334,4.445 5.334,19.685 -5.334,19.685 -5.334,4.445
Mechanical 15:
  circle w0.1: c0,16.828 r2
  lines w0.1: -5.334,13.335 -4.334,13.335 ; -3.334,13.335 -2.334,13.335 ; -3.175,4.445 -3.175,2.413 -2.794,2.413 -2.794,1.27 ; -2.286,1.27 -2.286,2.413 -1.905,2.413 -1.905,4.445 ; -1.334,13.335 -0.334,13.335 ; -0.635,4.445 -0.635,2.413 -0.254,2.413 -0.254,1.27 ; -0.5,0 0,0 ; 0,-0.5 0,0 ; 0,0.5 0,0 ; 0.254,1.27 0.254,2.413 0.635,2.413 0.635,4.445 ; 0.3,13.335 1.3,13.335 ; 0.5,0 0,0 ; 1.905,4.445 1.905,2.413 2.286,2.413 2.286,1.27 ; 2.3,13.335 3.3,13.335 ; 2.794,1.27 2.794,2.413 3.175,2.413 3.175,4.445 ; 4.334,13.335 5.334,13.335 ; -5.334,4.445 -5.334,19.685 5.334,19.685 5.334,4.445 -5.334,4.445
3D body "TO-220-HFLIP.stp": height 4.7, standoff -4.7, extent -5.27,-0.28 5.27,19.49